# EAGLE library part MC100E016FNG (library on-semiconductor-01)
Synchronous Binary Up Counter
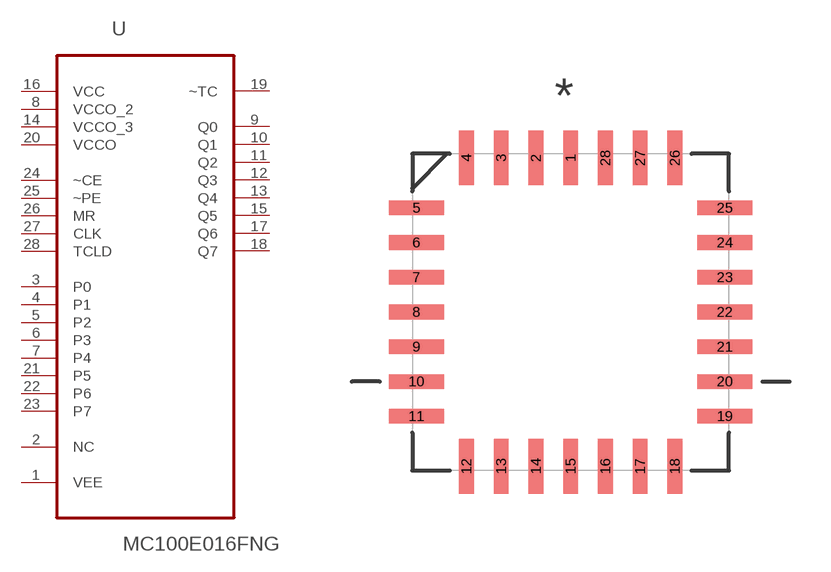
[diagram p75: symbol with the pads of PLCC127P1257X1257X457-28N; footprint PLCC127P1257X1257X457-28N]

Designator prefix U

## MC100E016FNG (MPN: MC100E016FNG; OC_FARNELL: 1147616; OC_NEWARK: 26K3871; PACKAGE: PLCC-28; SUPPLIER: ON SEMICONDUCTOR)  [PLCC127P1257X1257X457-28N]
1  VEE  pwr
2  NC  nc
3  P0  in
4  P1  in
5  P2  in
6  P3  in
7  P4  in
8  VCCO_2  pwr
9  Q0  out
10  Q1  out
11  Q2  out
12  Q3  out
13  Q4  out
14  VCCO_3  pwr
15  Q5  out
16  VCC  pwr
17  Q6  out
18  Q7  out
19  ~TC  out
20  VCCO  pwr
21  P5  in
22  P6  in
23  P7  in
24  ~CE  in
25  ~PE  in
26  MR  in
27  CLK  in
28  TCLD  in

## Footprint PLCC127P1257X1257X457-28N (pad centres in mm)
smd 0.533 x 2.007: 1 0,5.639; 2 -1.27,5.639; 3 -2.54,5.639; 4 -3.81,5.639; 12 -3.81,-5.639; 13 -2.54,-5.639; 14 -1.27,-5.639; 15 0,-5.639; 16 1.27,-5.639; 17 2.54,-5.639; 18 3.81,-5.639; 26 3.81,5.639; 27 2.54,5.639; 28 1.27,5.639
smd 2.007 x 0.533: 5 -5.639,3.81; 6 -5.639,2.54; 7 -5.639,1.27; 8 -5.639,0; 9 -5.639,-1.27; 10 -5.639,-2.54; 11 -5.639,-3.81; 19 5.639,-3.81; 20 5.639,-2.54; 21 5.639,-1.27; 22 5.639,0; 23 5.639,1.27; 24 5.639,2.54; 25 5.639,3.81